# EAGLE library part UA7805 (library eko-parts)
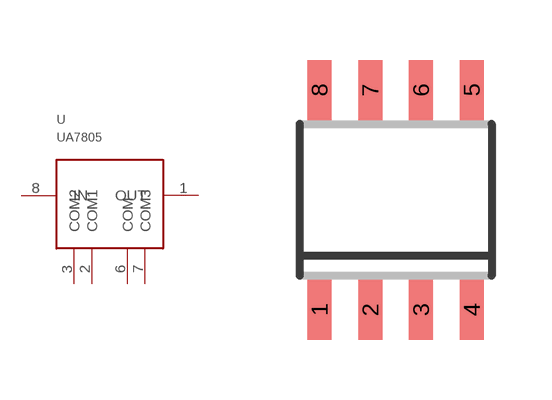
[diagram p4: symbol with the pads of R_PDSO_G8; footprint R_PDSO_G8]

Designator prefix U

## UA7805  [R_PDSO_G8]
1  OUT  pwr
2  COM1  pas
3  COM2  pas
6  COM  pas
7  COM3  pas
8  IN  pwr

## Footprint R_PDSO_G8 (pad centres in mm)
smd 0.6 x 1.5: 1 -1.905,-2.75; 2 -0.635,-2.75; 3 0.635,-2.75; 4 1.905,-2.75; 5 1.905,2.75; 6 0.635,2.75; 7 -0.635,2.75; 8 -1.905,2.75